# EAGLE library part SDMMC (library dragino)
SD MMC Card holder 4UCON part #06132 - easy to solder
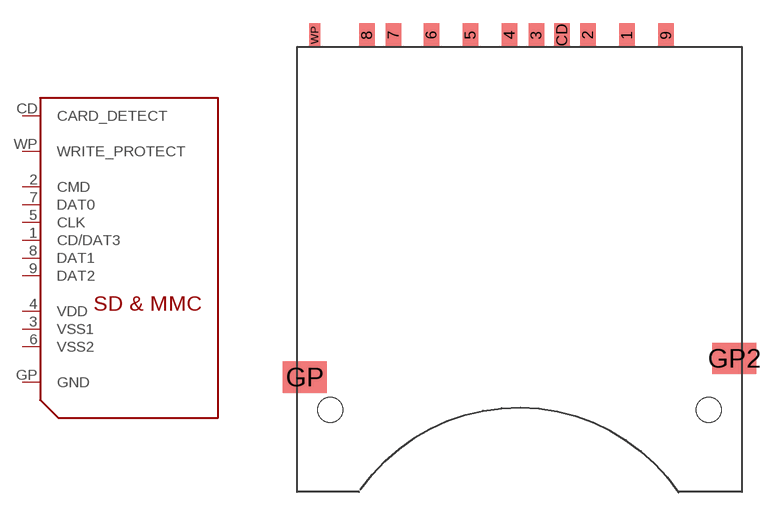
[diagram p30: symbol with the pads of JLC-C14499; footprint JLC-C14499]

Designator prefix -

## SDMMCC14499  [JLC-C14499]
1  CD/DAT3  in
2  CMD  out
3  VSS1  sup
4  VDD  sup
5  CLK  in
6  VSS2  sup
7  DAT0  in
8  DAT1
9  DAT2
CD  CARD_DETECT  pas
GP  GND  sup
WP  WRITE_PROTECT  pas

## Footprint JLC-C14499 (pad centres in mm)
smd 1 x 1.5: 1 6.88,24; 2 4.38,24; 3 1.08,24; 4 -0.63,24; 5 -3.13,24; 6 -5.63,24; 7 -8.05,24; 8 -9.75,24; 9 9.38,24; CD 2.73,24
smd 2.8 x 2: GP -13.73,2.1; GP2 13.73,3.3
smd 0.7 x 1.5: WP -13.1,24
hole 1.6 at -12.1,0
hole 1.6 at 12.1,0